# EAGLE library part T2000SX-MEM (library Ketturi electronics)
Toshiba T2000SX memory connector Pinout for Toshiba T2000SX laptop memory module
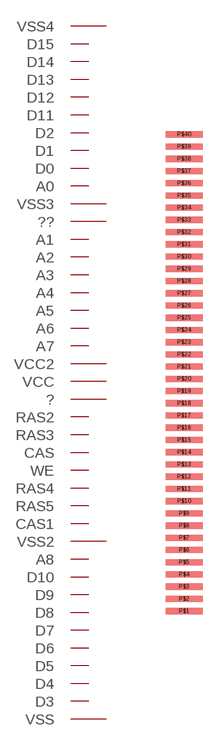
[diagram p5: symbol with the pads of 40-PIN-1MM; footprint 40-PIN-1MM]

Designator prefix -

## T2000SX-MEM  [40-PIN-1MM]
P$1  VSS  pwr
P$2  D3
P$3  D4
P$4  D5
P$5  D6
P$6  D7
P$7  D8
P$8  D9
P$9  D10
P$10  A8
P$11  VSS2  pwr
P$12  CAS1
P$13  RAS5
P$14  RAS4
P$15  WE
P$16  CAS
P$17  RAS3
P$18  RAS2
P$19  ?
P$20  VCC  pwr
P$21  VCC2  pwr
P$22  A7
P$23  A6
P$24  A5
P$25  A4
P$26  A3
P$27  A2
P$28  A1
P$29  ??
P$30  VSS3  pwr
P$31  A0
P$32  D0
P$33  D1
P$34  D2
P$35  D11
P$36  D12
P$37  D13
P$38  D14
P$39  D15
P$40  VSS4  pwr

## Footprint 40-PIN-1MM (pad centres in mm)
smd 3 x 0.508: P$1 0,1; P$2 0,2; P$3 0,3; P$4 0,4; P$5 0,5; P$6 0,6; P$7 0,7; P$8 0,8; P$9 0,9; P$10 0,10; P$11 0,11; P$12 0,12; P$13 0,13; P$14 0,14; P$15 0,15; P$16 0,16; P$17 0,17; P$18 0,18; P$19 0,19; P$20 0,20; P$21 0,21; P$22 0,22; P$23 0,23; P$24 0,24; P$25 0,25; P$26 0,26; P$27 0,27; P$28 0,28; P$29 0,29; P$30 0,30; P$31 0,31; P$32 0,32; P$33 0,33; P$34 0,34; P$35 0,35; P$36 0,36; P$37 0,37; P$38 0,38; P$39 0,39; P$40 0,40